# EAGLE library part LED_100V_BUCK (library LED-drivers)
100V LED buck driver DC Labs 100V in / 100V out led buck driver daughter board.
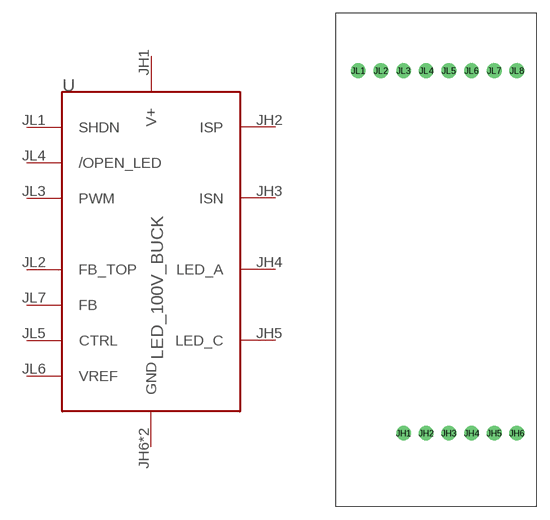
[diagram p1: symbol with the pads of LED_100V_BUCK; footprint LED_100V_BUCK]

Designator prefix U

## LED_100V_BUCK  [LED_100V_BUCK]
JH1  V+  pwr
JH2  ISP
JH3  ISN
JH4  LED_A
JH5  LED_C
JH6  GND  pwr
JL1  SHDN  in
JL2  FB_TOP
JL3  PWM  in
JL4  /OPEN_LED  out
JL5  CTRL
JL6  VREF
JL7  FB
JL8  GND  pwr

## Footprint LED_100V_BUCK (pad centres in mm)
This package shows the outline and pins for mounting the DC Labs 100V LED buck driver as a daughter board.
drill 1.1: JH1 7.62,8.176; JH2 10.16,8.176; JH3 12.7,8.176; JH4 15.24,8.176; JH5 17.78,8.176; JH6 20.32,8.176; JL1 2.54,48.816; JL2 5.08,48.816; JL3 7.62,48.816; JL4 10.16,48.816; JL5 12.7,48.816; JL6 15.24,48.816; JL7 17.78,48.816; JL8 20.32,48.816